# Altium schematic symbol library BMOD0001_P005_B02.SchLib: 1 symbol
Pins are listed as number, name and electrical type; pins without a type are passive.

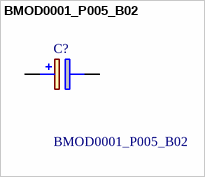
[diagram p0: symbol BMOD0001_P005_B02]

## BMOD0001_P005_B02
designator C?
1.5 F (EDLC) supercondensators 5 V Radiaal, blik 143mOhm 1000 uur @ 85C -40C ~ 65C 1000 uur @ 85C; Manufacturer_Name: Maxwell Technologies; Manufacturer_Part_Number: BMOD0001 P005 B02; Geometry.Height: 23mm; Mouser Part Number: 723-BMOD0001P005B02; Mouser Price/Stock: https://www.mouser.co.uk/ProductDetail/Maxwell-Technologies/BMOD0001-P005-B02?qs=W0yvOO0ixfEzFv8%2F5TnOWA%3D%3D; Datasheet Link: https://maxwell.com/wp-content/uploads/2021/09/5.0V-1.5F_ds_3001960-EN.5-1.pdf
footprint BMOD0001P005B02
pins: 1 +, 2 -